# EAGLE library part ENC28J60_ETHERNET_MINI (library UNIT_Biblioteca_Modulos)
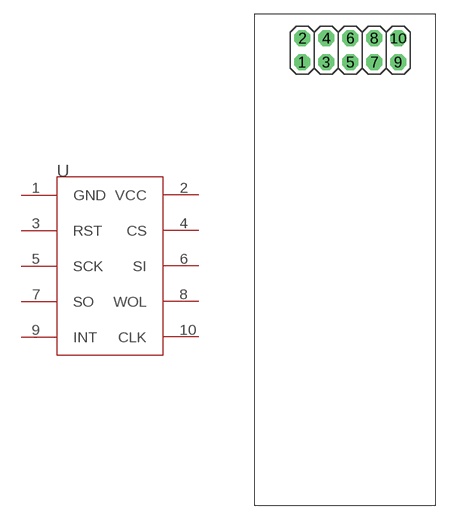
[diagram p0: symbol with the pads of ENC28J60; footprint ENC28J60]

Designator prefix -

## ENC28J60_ETHERNET_MINI  [ENC28J60]
1  GND
2  VCC
3  RST
4  CS
5  SCK
6  SI
7  SO
8  WOL
9  INT
10  CLK

## Footprint ENC28J60 (pad centres in mm)
drill 1.016 pad 1.676 octagon: 1 3.81,3.81; 2 3.81,6.35; 3 6.35,3.81; 4 6.35,6.35; 5 8.89,3.81; 6 8.89,6.35; 7 11.43,3.81; 8 11.43,6.35; 9 13.97,3.81; 10 13.97,6.35